# EAGLE library part BQ24070 (library BQ24070)
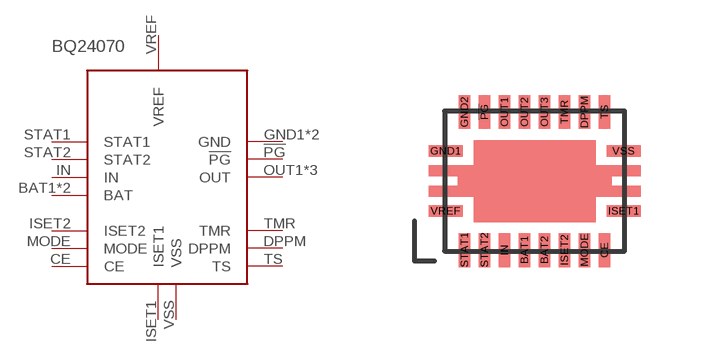
[diagram p0: symbol with the pads of R-PVQFN-N20; footprint R-PVQFN-N20]

Designator prefix -

## BQ24070 (AVAILABILITY: Unavailable; DESCRIPTION: The bq24070 and bq24071 are highly integrated Li-ion linear charger and system power-path management devices targeted...; MF: Texas Instruments; MP: BQ24070; PACKAGE: None; PRICE: None)  [R-PVQFN-N20]
!PG  !PG
BAT1  BAT
BAT2  BAT
CE  CE
DPPM  DPPM
GND1  GND
GND2  GND
IN  IN
ISET1  ISET1
ISET2  ISET2
MODE  MODE
OUT1  OUT
OUT2  OUT
OUT3  OUT
STAT1  STAT1
STAT2  STAT2
TMR  TMR
TS  TS
VREF  VREF
VSS  VSS

## BQ24070BQNEW  [R-PVQFN-N20]
Pads as for R-PVQFN-N20

## Footprint R-PVQFN-N20 (pad centres in mm)
smd 0.28 x 0.85: !PG -1.25,1.725; BAT1 -0.25,-1.725; BAT2 0.25,-1.725; CE 1.75,-1.725; DPPM 1.25,1.725; GND2 -1.75,1.725; IN -0.75,-1.725; ISET2 0.75,-1.725; MODE 1.25,-1.725; OUT1 -0.75,1.725; OUT2 -0.25,1.725; OUT3 0.25,1.725; STAT1 -1.75,-1.725; STAT2 -1.25,-1.725; TMR 0.75,1.725; TS 1.75,1.725
smd 0.85 x 0.28: GND1 -2.225,0.75; ISET1 2.225,-0.75; VREF -2.225,-0.75; VSS 2.225,0.75